# Altium schematic symbol library relais_schaltung.SchLib: 2 symbols
Pins are listed as number, name and electrical type; pins without a type are passive.

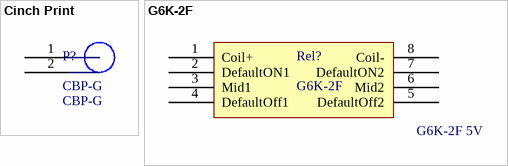
[diagram p0: symbols Cinch Print to G6K-2F]

## Cinch Print
designator P?, comment CBP-G
Reichelt: CBP-G
footprint Cinch
pins: 1 Sig, 2 GND

## G6K-2F
designator Rel?  Reichelt: G6K-2F 5V
footprint G6K-2F
pins: 1 Coil+, 2 DefaultON1, 3 Mid1, 4 DefaultOff1, 5 DefaultOff2, 6 Mid2, 7 DefaultON2, 8 Coil-